# Altium footprint library SparkFun-Connectors.PCBLIB: 327 footprints (part 18 of 21)
Each footprint in its own frame and in the unit in brackets; x right, y up, seen from the top. Pads: shape width x height; smd on the part's side, far side on the other; paste and mask are expansions set on the pad; w line width, h text height; cw(c..) or ccw(c..) is an arc to the next point about the centre after c.
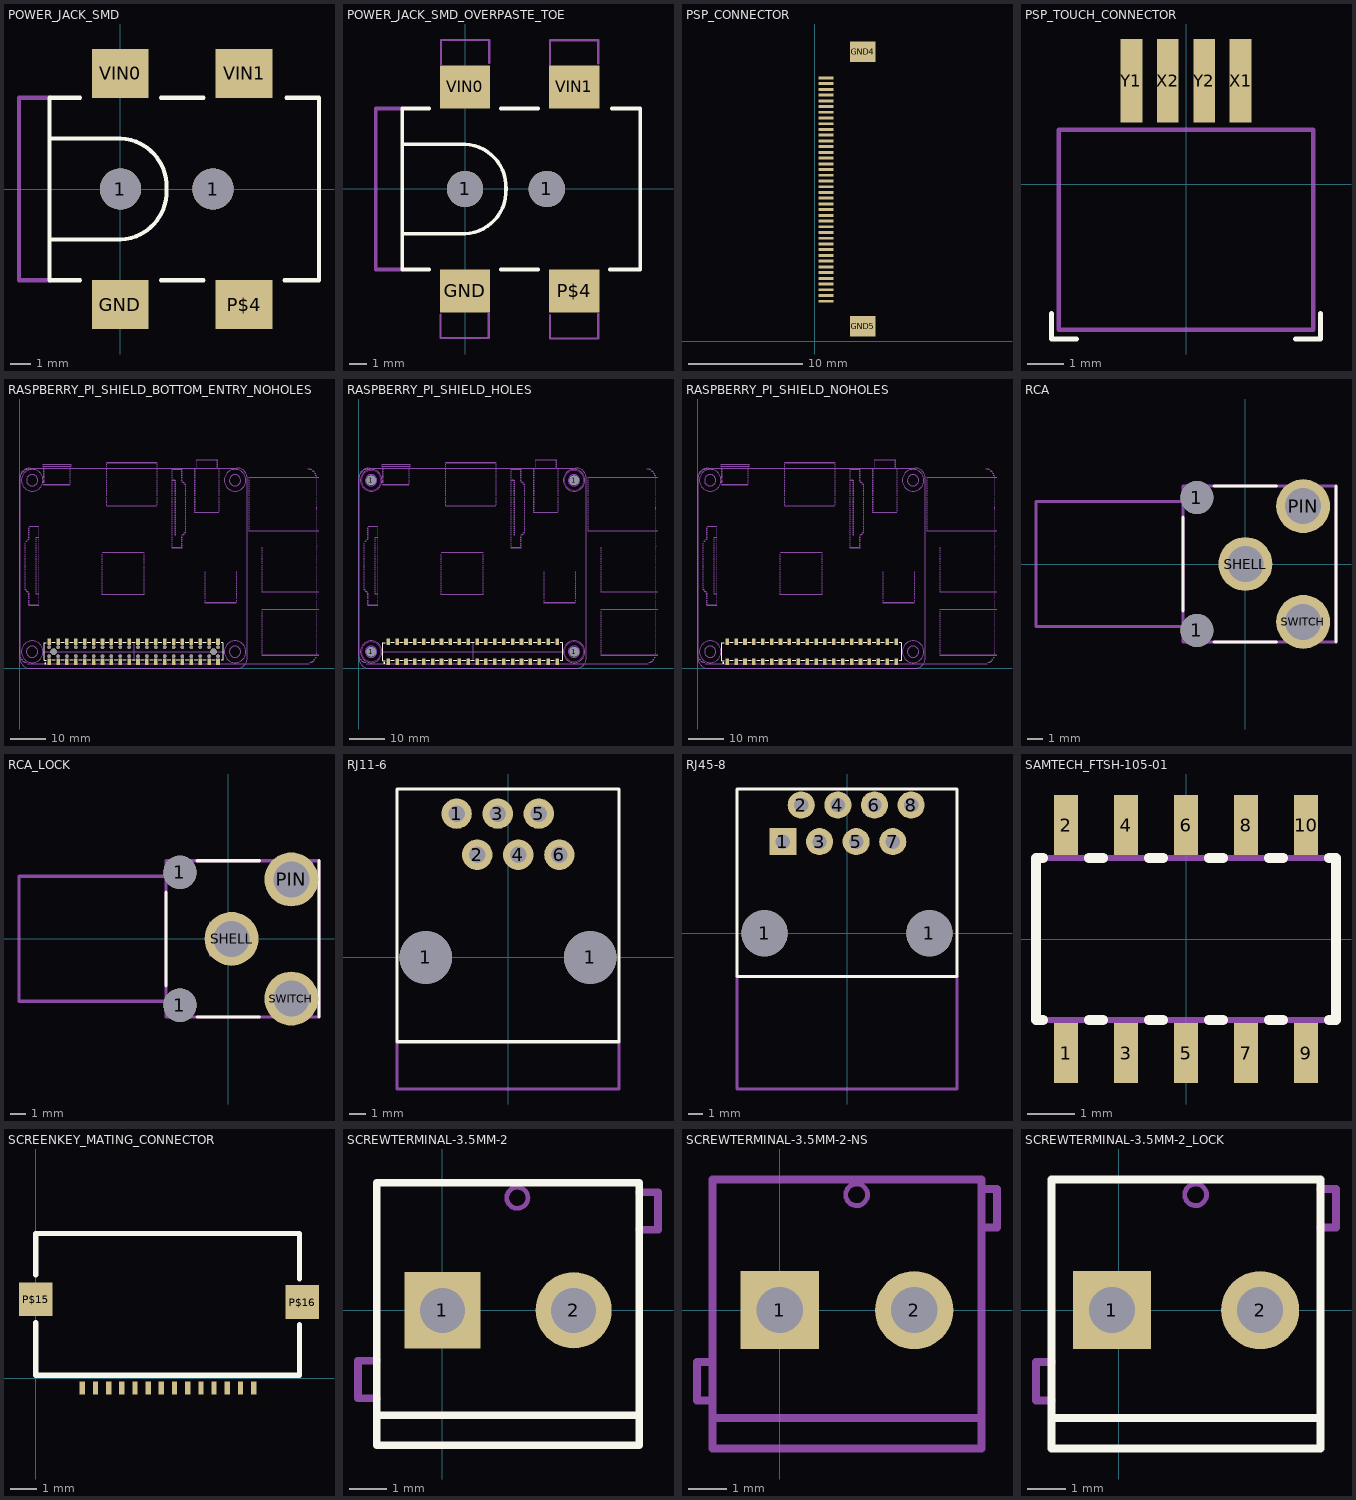
[diagram p17: the footprints below, top view; thin cyan lines are the x and y axes]

## POWER_JACK_SMD [mil]
pads (6):
  round 80 hole 80: 1(0,0) 1(180,0)
  rect 110.24x94.49 smd: GND(0,-224.41) P$4(240.16,-224.41) VIN0(0,224.41) VIN1(240.16,224.41)
Top Overlay:
  lines w8: -78.74,-177.17 -137.8,-177.17 -137.8,-98.43 ; -78.74,177.17 -137.8,177.17 -137.8,98.43 ; 78.74,-177.17 161.42,-177.17 ; 78.74,177.17 161.42,177.17 ; 318.9,-177.17 385.83,-177.17 385.83,177.17 322.83,177.17 ; -137.8,-98.43 -137.8,98.43 ; -137.8,-98.43 0,-98.43 ccw(c-4.21,-4.21) 90,0 ccw(c-4.21,4.21) 0,98.43 -137.8,98.43
Mechanical 16:
  lines w8: -137.8,-177.17 -196.85,-177.17 -196.85,177.17 -137.8,177.17

## POWER_JACK_SMD_OVERPASTE_TOE [mil]
pads (6):
  round 80 hole 80: 1(0,0) 1(180,0)
  rect 110.24x94.49 smd: GND(0,-224.41) P$4(240.16,-224.41) VIN0(0,224.41) VIN1(240.16,224.41)
Top Overlay:
  lines w8: -78.74,-177.17 -137.8,-177.17 -137.8,-98.43 ; -78.74,177.17 -137.8,177.17 -137.8,98.43 ; 78.74,-177.17 161.42,-177.17 ; 78.74,177.17 161.42,177.17 ; 318.9,-177.17 385.83,-177.17 385.83,177.17 322.83,177.17 ; -137.8,-98.43 -137.8,98.43 ; -137.8,-98.43 0,-98.43 ccw(c-4.21,-4.21) 90,0 ccw(c-4.21,4.21) 0,98.43 -137.8,98.43
Top Paste:
  rectangle: -55.1,-330 55.1,-271.5
  rectangle: 185.1,-330.1 295.3,-271.6
  region: 295.3,330 185.1,330 185.1,271.5 295.3,271.5
  region: 55.1,330 -55.1,330 -55.1,271.5 55.1,271.5
Mechanical 16:
  lines w5: -54,-277 -54,-328 52,-328 52,-274 ; -53,274 -53,328 53,328 53,277 ; 187,-278 187,-329 293,-329 293,-275 ; 187,273 187,327 293,327 293,276
  lines w8: -137.8,-177.17 -196.85,-177.17 -196.85,177.17 -137.8,177.17
  text "OVERPASTE" at -48,310 h10.2
  text "OVERPASTE" at 192,309 h10.2
  text "OVERPASTE" at 47,-310 h10.2
  text "OVERPASTE" at 288,-311 h10.2
Mech86:
  drawing of 250 lines, arcs and shapes, not listed
  text "//kentro/work/Production/AOI Parts/Tyler/Breadboard power 5v/barreljack.bmp" at 390,-268 h1.7

## PSP_CONNECTOR [mm]
pads (43):
  rect 0.001x0.001 smd far side: .(4.4,25.3)
  rect 1.27x0.254 smd: AVDD(1,6) AVDD2(1,5.5) B0(1,13) B1(1,12.5) B2(1,12) B3(1,11.5) B4(1,11) B5(1,10.5) B6(1,10) B7(1,9.5) CK(1,8.5) DISP(1,8) G0(1,17) G1(1,16.5) G2(1,16) G3(1,15.5) G4(1,15) G5(1,14.5) G6(1,14) G7(1,13.5) GND(1,23) GND2(1,22.5) GND3(1,9) HSYNC(1,7.5) NC(1,6.5) NC2(1,5) R0(1,21) R1(1,20.5) R2(1,20) R3(1,19.5) R4(1,19) R5(1,18.5) R6(1,18) R7(1,17.5) TEST1(1,4.5) TEST2(1,4) TEST3(1,3.5) VCC(1,22) VCC2(1,21.5) VSYNC(1,7)
  rect 2.2x1.8 smd: GND4(4.2,25.3) GND5(4.2,1.3)

## PSP_TOUCH_CONNECTOR [mil]
pads (4):
  rect 23.62x90.55 smd: X1(59.06,112.2) X2(-19.69,112.2) Y1(-59.06,112.2) Y2(19.69,112.2)
Top Overlay:
  lines w5: -145.67,-139.76 -145.67,-167.32 -118.11,-167.32 ; 118.11,-167.32 145.67,-167.32 145.67,-139.76
Mechanical 16:
  lines w5: -137.8,-157.48 137.8,-157.48 137.8,59.06 -137.8,59.06 -137.8,-157.48

## RASPBERRY_PI_SHIELD_BOTTOM_ENTRY_NOHOLES [mil]
pads (82):
  round 40.16 hole 40.16: 1(329.53,138.98) 1(329.53,238.98) 1(429.53,138.98) 1(429.53,238.98) 1(529.53,138.98) 1(529.53,238.98) 1(629.53,138.98) 1(629.53,238.98) 1(729.53,138.98) 1(729.53,238.98) 1(829.53,138.98) 1(829.53,238.98) 1(929.53,138.98) 1(929.53,238.98) 1(1029.53,138.98) 1(1029.53,238.98) 1(1129.53,138.98) 1(1129.53,238.98) 1(1229.53,138.98) 1(1229.53,238.98) 1(1329.53,138.98) 1(1329.53,238.98) 1(1429.53,138.98) 1(1429.53,238.98) 1(1529.53,138.98) 1(1529.53,238.98) 1(1629.53,138.98) 1(1629.53,238.98) 1(1729.53,138.98) 1(1729.53,238.98) 1(1829.53,138.98) 1(1829.53,238.98) 1(1929.53,138.98) 1(1929.53,238.98) 1(2029.53,138.98) 1(2029.53,238.98) 1(2129.53,138.98) 1(2129.53,238.98) 1(2229.53,138.98) 1(2229.53,238.98)
  rect 40.16x73.62 smd: 1(329.53,301.77) 2(329.53,76.18) 3(429.53,301.77) 4(429.53,76.18) 5(529.53,301.77) 6(529.53,76.18) 7(629.53,301.77) 8(629.53,76.18) 9(729.53,301.77) 10(729.53,76.18) 11(829.53,301.77) 12(829.53,76.18) 13(929.53,301.77) 14(929.53,76.18) 15(1029.53,301.77) 16(1029.53,76.18) 17(1129.53,301.77) 18(1129.53,76.18) 19(1229.53,301.77) 20(1229.53,76.18) 21(1329.53,301.77) 22(1329.53,76.18) 23(1429.53,301.77) 24(1429.53,76.18) 25(1529.53,301.77) 26(1529.53,76.18) 27(1629.53,301.77) 28(1629.53,76.18) 29(1729.53,301.77) 30(1729.53,76.18) 31(1829.53,301.77) 32(1829.53,76.18) 33(1929.53,301.77) 34(1929.53,76.18) 35(2029.53,301.77) 36(2029.53,76.18) 37(2129.53,301.77) 38(2129.53,76.18) 39(2229.53,301.77) 40(2229.53,76.18)
  round 70.87 hole 70.87: 1(379.53,188.98) 1(2179.53,188.98)
Top Overlay:
  circle w10: c285.43,57.88 r4.4
  lines w8: 294.53,90.55 275.59,90.55 275.59,287.4 294.53,287.4 ; 359.84,90.55 399.21,90.55 ; 359.84,287.4 399.21,287.4 ; 459.84,90.55 499.21,90.55 ; 459.84,287.4 499.21,287.4 ; 559.84,90.55 599.21,90.55 ; 559.84,287.4 599.21,287.4 ; 659.84,90.55 699.21,90.55 ; 659.84,287.4 699.21,287.4 ; 759.84,90.55 799.21,90.55 ; 759.84,287.4 799.21,287.4 ; 859.84,90.55 899.21,90.55 ; 859.84,287.4 899.21,287.4 ; 959.84,90.55 999.21,90.55 ; 959.84,287.4 999.21,287.4 ; 1059.84,90.55 1099.21,90.55 ; 1059.84,287.4 1099.21,287.4 ; 1159.84,90.55 1199.21,90.55 ; 1159.84,287.4 1199.21,287.4 ; 1259.84,90.55 1299.21,90.55 ; 1259.84,287.4 1299.21,287.4 ; 1359.84,90.55 1399.21,90.55 ; 1359.84,287.4 1399.21,287.4 ; 1459.84,90.55 1499.21,90.55 ; 1459.84,287.4 1499.21,287.4 ; 1559.84,90.55 1599.21,90.55 ; 1559.84,287.4 1599.21,287.4 ; 1659.84,90.55 1699.21,90.55 ; 1659.84,287.4 1699.21,287.4 ; 1759.84,90.55 1799.21,90.55 ; 1759.84,287.4 1799.21,287.4 ; 1859.84,90.55 1899.21,90.55 ; 1859.84,287.4 1899.21,287.4 ; 1959.84,90.55 1999.21,90.55 ; 1959.84,287.4 1999.21,287.4 ; 2059.84,90.55 2099.21,90.55 ; 2059.84,287.4 2099.21,287.4 ; 2159.84,90.55 2199.21,90.55 ; 2159.84,287.4 2199.21,287.4 ; 2264.53,90.55 2283.46,90.55 2283.46,287.4 2264.53,287.4
Mechanical 14:
  drawing of 2050 lines, arcs and shapes, not listed
  text "AUDIO" at 2136,1903 h77.5
  text "HDMI" at 1175,2021 h77.5
  text "CAMERA" at 1831,1664 h77.5
  text "DISPLAY" at 141,1002 h77.5
  text "USB" at 357,2137 h77.5
  text "USB" at 2989,1082 h77.5
  text "USB" at 2984,327 h77.5
  text "ETHERNET" at 2778,1829 h77.5

## RASPBERRY_PI_SHIELD_HOLES [mil]
pads (44):
  round 108.27 hole 108.27: 1(138.27,188) 1(138.27,2117.13) 1(2421.73,188) 1(2421.73,2117.13)
  rect 40.16x73.62 smd: 1(330,302.62) 2(330,75.94) 3(430,302.62) 4(430,75.94) 5(530,302.62) 6(530,75.94) 7(630,302.62) 8(630,75.94) 9(730,302.62) 10(730,75.94) 11(830,302.62) 12(830,75.94) 13(930,302.62) 14(930,75.94) 15(1030,302.62) 16(1030,75.94) 17(1130,302.62) 18(1130,75.94) 19(1230,302.62) 20(1230,75.94) 21(1330,302.62) 22(1330,75.94) 23(1430,302.62) 24(1430,75.94) 25(1530,302.62) 26(1530,75.94) 27(1630,302.62) 28(1630,75.94) 29(1730,302.62) 30(1730,75.94) 31(1830,302.62) 32(1830,75.94) 33(1930,302.62) 34(1930,75.94) 35(2030,302.62) 36(2030,75.94) 37(2130,302.62) 38(2130,75.94) 39(2230,302.62) 40(2230,75.94)
Top Layer keep-out:
  circle w8: c138.27,188 r63.53
  circle w5: c138.27,188 r110
  circle w5: c2421.73,2117.13 r110
  circle w8: c2421.73,2117.13 r63.53
  circle w5: c138.27,2117.13 r110
  circle w8: c138.27,2117.13 r63.53
  circle w5: c2421.73,188 r110
  circle w8: c2421.73,188 r63.53
Bottom Layer keep-out:
  circle w8: c137.32,188 r63.53
  circle w8: c2420.79,2117.13 r63.53
  circle w8: c137.32,2117.13 r63.53
  circle w8: c2420.79,188 r63.53
Top Overlay:
  circle w10: c285.91,62.02 r4.4
  lines w8: 295,88 270,88 270,288 295,288 ; 360,88 400,88 ; 360,288 400,288 ; 460,88 500,88 ; 460,288 500,288 ; 560,88 600,88 ; 560,288 600,288 ; 660,88 700,88 ; 660,288 700,288 ; 760,88 800,88 ; 760,288 800,288 ; 860,88 900,88 ; 860,288 900,288 ; 960,88 1000,88 ; 960,288 1000,288 ; 1060,88 1100,88 ; 1060,288 1100,288 ; 1160,88 1200,88 ; 1160,288 1200,288 ; 1260,88 1300,88 ; 1260,288 1300,288 ; 1360,88 1400,88 ; 1360,288 1400,288 ; 1460,88 1500,88 ; 1460,288 1500,288 ; 1560,88 1600,88 ; 1560,288 1600,288 ; 1660,88 1700,88 ; 1660,288 1700,288 ; 1760,88 1800,88 ; 1760,288 1800,288 ; 1860,88 1900,88 ; 1860,288 1900,288 ; 1960,88 2000,88 ; 1960,288 2000,288 ; 2060,88 2100,88 ; 2060,288 2100,288 ; 2160,88 2200,88 ; 2160,288 2200,288 ; 2265,88 2290,88 2290,288 2265,288
Mechanical 14:
  drawing of 2046 lines, arcs and shapes, not listed
  text "AUDIO" at 2136,1903 h77.5
  text "HDMI" at 1175,2021 h77.5
  text "CAMERA" at 1831,1664 h77.5
  text "DISPLAY" at 141,1002 h77.5
  text "USB" at 357,2137 h77.5
  text "USB" at 2989,1082 h77.5
  text "USB" at 2984,327 h77.5
  text "ETHERNET" at 2778,1829 h77.5

## RASPBERRY_PI_SHIELD_NOHOLES [mil]
pads (40):
  rect 40.16x73.62 smd: 1(330,302.62) 2(330,75.94) 3(430,302.62) 4(430,75.94) 5(530,302.62) 6(530,75.94) 7(630,302.62) 8(630,75.94) 9(730,302.62) 10(730,75.94) 11(830,302.62) 12(830,75.94) 13(930,302.62) 14(930,75.94) 15(1030,302.62) 16(1030,75.94) 17(1130,302.62) 18(1130,75.94) 19(1230,302.62) 20(1230,75.94) 21(1330,302.62) 22(1330,75.94) 23(1430,302.62) 24(1430,75.94) 25(1530,302.62) 26(1530,75.94) 27(1630,302.62) 28(1630,75.94) 29(1730,302.62) 30(1730,75.94) 31(1830,302.62) 32(1830,75.94) 33(1930,302.62) 34(1930,75.94) 35(2030,302.62) 36(2030,75.94) 37(2130,302.62) 38(2130,75.94) 39(2230,302.62) 40(2230,75.94)
Top Overlay:
  circle w10: c285.91,62.02 r4.4
  lines w8: 295,88 270,88 270,288 295,288 ; 360,88 400,88 ; 360,288 400,288 ; 460,88 500,88 ; 460,288 500,288 ; 560,88 600,88 ; 560,288 600,288 ; 660,88 700,88 ; 660,288 700,288 ; 760,88 800,88 ; 760,288 800,288 ; 860,88 900,88 ; 860,288 900,288 ; 960,88 1000,88 ; 960,288 1000,288 ; 1060,88 1100,88 ; 1060,288 1100,288 ; 1160,88 1200,88 ; 1160,288 1200,288 ; 1260,88 1300,88 ; 1260,288 1300,288 ; 1360,88 1400,88 ; 1360,288 1400,288 ; 1460,88 1500,88 ; 1460,288 1500,288 ; 1560,88 1600,88 ; 1560,288 1600,288 ; 1660,88 1700,88 ; 1660,288 1700,288 ; 1760,88 1800,88 ; 1760,288 1800,288 ; 1860,88 1900,88 ; 1860,288 1900,288 ; 1960,88 2000,88 ; 1960,288 2000,288 ; 2060,88 2100,88 ; 2060,288 2100,288 ; 2160,88 2200,88 ; 2160,288 2200,288 ; 2265,88 2290,88 2290,288 2265,288
Mechanical 14:
  drawing of 2048 lines, arcs and shapes, not listed
  text "AUDIO" at 2136,1903 h77.5
  text "HDMI" at 1175,2021 h77.5
  text "CAMERA" at 1831,1664 h77.5
  text "DISPLAY" at 141,1002 h77.5
  text "USB" at 357,2137 h77.5
  text "USB" at 2989,1082 h77.5
  text "USB" at 2984,327 h77.5
  text "ETHERNET" at 2778,1829 h77.5

## RCA [mm]
pads (5):
  round 2.1 hole 2.1: 1(-3.1,-4.25) 1(-3.1,4.25)
  round 3.45 hole 2.3: PIN(3.7,3.7) SHELL(0,0) SWITCH(3.7,-3.7)
Top Overlay:
  lines w0.203: -4,-3 -4,3 ; -2,-5 2,-5 ; -2,5 2,5 ; 5.8,-5 5.8,5
Mechanical 16:
  lines w0.203: -4,-4 -13.4,-4 -13.4,4 -4,4 ; -4,-5 -4,5 5.8,5 5.8,-5 -4,-5

## RCA_LOCK [mil]
pads (5):
  round 84 hole 84: 1(-122.05,-167.32) 1(-122.05,167.32)
  round 135.82 hole 90.55: PIN(158.67,149.67) SHELL(8,0) SWITCH(158.67,-150.67)
Top Overlay:
  lines w8: -157.48,-118.11 -157.48,118.11 ; -78.74,-196.85 78.74,-196.85 ; -78.74,196.85 78.74,196.85 ; 228.35,-196.85 228.35,196.85
Mechanical 16:
  rectangle: -152,137 -93,196
  rectangle: -152,-198 -93,-139
  rectangle: -49,-44 10,44
  rectangle: 113,-153 201,-139
  rectangle: 113,137 201,151
  lines w1: 113,-138 176,-138 ; 113,136 176,136
  lines w8: -157.48,-157.48 -527.56,-157.48 -527.56,157.48 -157.48,157.48 ; -157.48,-196.85 -157.48,196.85 228.35,196.85 228.35,-196.85 -157.48,-196.85

## RJ11-6 [mil]
pads (8):
  round 128 hole 128: 1(-200,0) 1(200,0)
  round 74 hole 40: 1(-125,350) 2(-75,250) 3(-25,350) 4(25,250) 5(75,350) 6(125,250)
Top Overlay:
  lines w8: -270,-205 -270,410 270,410 270,-205 -270,-205
Mechanical 16:
  lines w8: -270,-205 -270,-320 270,-320 270,-205

## RJ45-8 [mil]
pads (10):
  round 125.98 hole 125.98: 1(-225,0) 1(225,0)
  rect 74x74 hole 39.37: 1(-175,250)
  round 74 hole 39.37: 2(-125,350) 3(-75,250) 4(-25,350) 5(25,250) 6(75,350) 7(125,250) 8(175,350)
Top Overlay:
  lines w8: -300,-118.11 -300,393.7 300,393.7 300,-118.11 -300,-118.11
Mechanical 16:
  lines w8: -300,-118.11 -300,-425.2 300,-425.2 300,-118.11

## SAMTECH_FTSH-105-01 [mil]
pads (10):
  rect 20x50 smd: 1(-100,-95) 2(-100,95) 3(-50,-95) 4(-50,95) 5(0,-95) 6(0,95) 7(50,-95) 8(50,95) 9(100,-95) 10(100,95)
Top Overlay:
  lines w8: -119,-67.5 -125,-67.5 -125,67.5 -119,67.5 ; -81,-67.5 -69,-67.5 ; -81,67.5 -69,67.5 ; -31,-67.5 -19,-67.5 ; -31,67.5 -19,67.5 ; 19,-67.5 31,-67.5 ; 19,67.5 31,67.5 ; 69,-67.5 81,-67.5 ; 69,67.5 81,67.5 ; 119,-67.5 125,-67.5 125,67.5 119,67.5
Mechanical 16:
  rectangle: -8,67.5 8,115
  rectangle: 42,67.5 58,115
  rectangle: 92,67.5 108,115
  rectangle: -58,67.5 -42,115
  rectangle: -108,67.5 -92,115
  region: 8,-67.5 -8,-67.5 -8,-115 8,-115
  region: -42,-67.5 -58,-67.5 -58,-115 -42,-115
  region: -92,-67.5 -108,-67.5 -108,-115 -92,-115
  region: 58,-67.5 42,-67.5 42,-115 58,-115
  region: 108,-67.5 92,-67.5 92,-115 108,-115
  lines w5: -125,-67.5 125,-67.5 125,67.5 -125,67.5 -125,-67.5

## SCREENKEY_MATING_CONNECTOR [mm]
pads (16):
  rect 0.2x0.5 smd: 1(1.76,-0.36) 2(2.26,-0.36) 3(2.76,-0.36) 4(3.26,-0.36) 5(3.76,-0.36) 6(4.26,-0.36) 7(4.76,-0.36) 8(5.26,-0.36) 9(5.76,-0.36) 10(6.26,-0.36) 11(6.76,-0.36) 12(7.26,-0.36) 13(7.76,-0.36) 14(8.26,-0.36)
  rect 1.28x1.28 smd: P$15(0,3) P$16(10.1,2.9)
Top Overlay:
  lines w0.203: 0,2.108 0,0.127 10,0.127 10,2.032 ; 0,3.937 0,5.486 ; 0,5.5 10,5.5 10,3.785

## SCREWTERMINAL-3.5MM-2 [mil]
pads (2):
  rect 80x80 hole 47.24: 1(0,0)
  round 80 hole 47.24: 2(137.8,0)
Top Overlay:
  lines w8: -68.9,-110.24 -68.9,-141.73 206.69,-141.73 206.69,-110.24 ; -68.9,-110.24 -68.9,133.86 206.69,133.86 206.69,-110.24 ; -68.9,-110.24 206.69,-110.24
Mechanical 16:
  circle w5: c78.74,118.11 r11.13
  lines w8: -68.9,-92.52 -88.58,-92.52 -88.58,-53.15 -68.9,-53.15 ; 206.69,84.65 226.38,84.65 226.38,124.02 206.69,124.02

## SCREWTERMINAL-3.5MM-2-NS [mil]
pads (2):
  rect 80x80 hole 47.24: 1(0,0)
  round 80 hole 47.24: 2(137.8,0)
Mechanical 16:
  circle w5: c78.74,118.11 r11.13
  lines w8: -68.9,-92.52 -84.65,-92.52 -84.65,-53.15 -68.9,-53.15 ; 206.69,84.65 222.44,84.65 222.44,124.02 206.69,124.02 ; -68.9,-110.24 -68.9,-141.73 206.69,-141.73 206.69,-110.24 ; -68.9,-110.24 -68.9,133.86 206.69,133.86 206.69,-110.24 ; -68.9,-110.24 206.69,-110.24

## SCREWTERMINAL-3.5MM-2_LOCK [mil]
pads (2):
  rect 80x80 hole 47.24: 1(-7,0)
  round 80 hole 47.24: 2(144.8,0)
Top Overlay:
  lines w8: -68.9,-110.24 -68.9,-141.73 206.69,-141.73 206.69,-110.24 ; -68.9,-110.24 -68.9,133.86 206.69,133.86 206.69,-110.24 ; -68.9,-110.24 206.69,-110.24
Mechanical 16:
  circle w5: c78.74,118.11 r11.13
  circle w1: c0,0 r17
  circle w1: c137.8,0 r17
  lines w8: -68.9,-92.52 -84.65,-92.52 -84.65,-53.15 -68.9,-53.15 ; 206.69,84.65 222.44,84.65 222.44,124.02 206.69,124.02